# Altium schematic symbol library LM2940.SchLib: 1 symbol
Pins are listed as number, name and electrical type; pins without a type are passive.

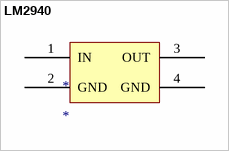
[diagram p0: symbol LM2940]

## LM2940
designator *
LM2940 1A Low Dropout Regulator; ComponentLink1URL: https://www.national.com/ds/LM/LM2940.pdf; ComponentLink1Description: Datasheet
footprint SOT230P700-4BM (SOT223, 4-Leads, Body 6.5x3.5mm, Pitch 2.3mm, Lead Span 7mm, IPC Low Density)
pins: 1 IN (power), 2 GND (power), 3 OUT (power), 4 GND (power)